# Altium footprint library VSON-10.PcbLib: 1 footprints
Each footprint in its own frame and in the unit in brackets; x right, y up, seen from the top. Pads: shape width x height; smd on the part's side, far side on the other; paste and mask are expansions set on the pad; w line width, h text height; cw(c..) or ccw(c..) is an arc to the next point about the centre after c.
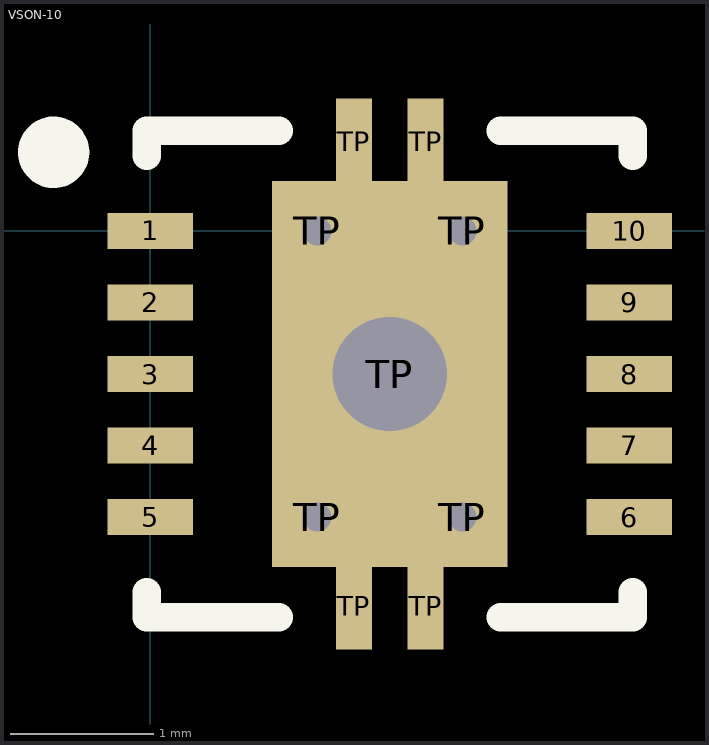
[diagram p0: the footprint, top view; thin cyan lines are the x and y axes]

## VSON-10 [mm] "VSON, 10-Leads, Body 3,00x3,00mm, Pitch 0,50mm, Thermal Pad 1,65x2,40mm"
height 1
pads (20):
  rect 0.6x0.25 smd: 1(0,0) 2(0,-0.5) 3(0,-1) 4(0,-1.5) 5(0,-2) 6(3.35,-2) 7(3.35,-1.5) 8(3.35,-1) 9(3.35,-0.5) 10(3.35,0)
  round 0.5 hole 0.2: TP(1.167,-2) TP(1.167,0) TP(2.183,-2) TP(2.183,0)
  rect 0.25x0.6 smd: TP(1.425,-2.625) TP(1.425,0.625) TP(1.925,-2.625) TP(1.925,0.625)
  rect 1.65x2.7 smd: TP(1.675,-1)
  round 1.2 hole 0.8: TP(1.675,-1)
Top Overlay:
  circle w0.25: c-0.675,0.55 r0.125
  lines w0.2: -0.025,-2.525 -0.025,-2.7 0.9,-2.7 ; -0.025,0.525 -0.025,0.7 0.9,0.7 ; 2.45,-2.7 3.375,-2.7 3.375,-2.525 ; 2.45,0.7 3.375,0.7 3.375,0.525
Mechanical 16:
  text "'.Designator'" at 0.265,-1.91 h1.5
3D body "VSON-10.step": height 1, standoff 0, extent 0.115,-2.56 3.235,0.56